# Altium footprint library PCB - CONNECTOR - MOLEX - MOLEX 0530470810.PcbLib: 1 footprints
Each footprint in its own frame and in the unit in brackets; x right, y up, seen from the top. Pads: shape width x height; smd on the part's side, far side on the other; paste and mask are expansions set on the pad; w line width, h text height; cw(c..) or ccw(c..) is an arc to the next point about the centre after c.
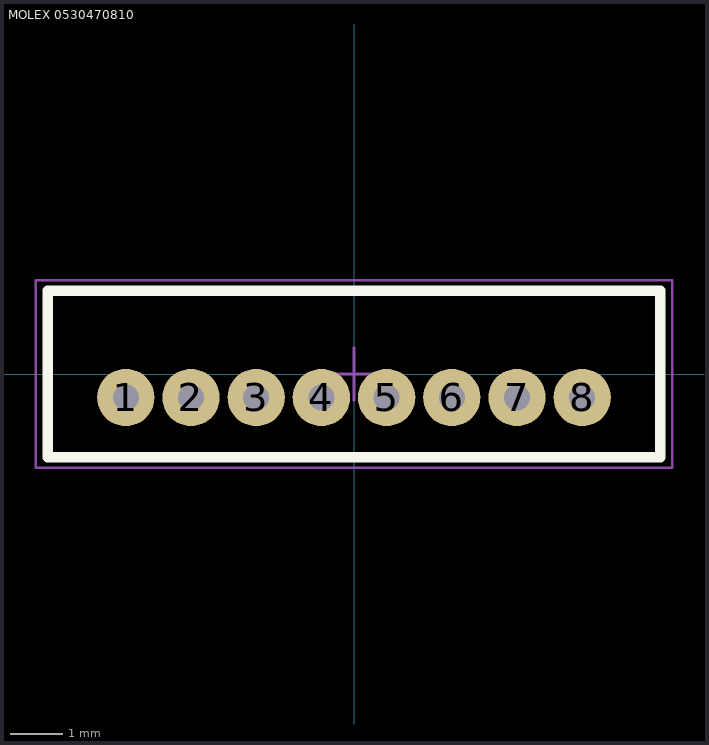
[diagram p0: the footprint, top view; thin cyan lines are the x and y axes]

## MOLEX 0530470810 [mm] "Connector Header Through Hole 8 position, 1.25mm Pitch, 11.75x3.2 mm Body"
height 4.2
pads (8):
  round 1.1 hole 0.5: 1(-4.375,-0.45) 2(-3.125,-0.45) 3(-1.875,-0.45) 4(-0.625,-0.45) 5(0.625,-0.45) 6(1.875,-0.45) 7(3.125,-0.45) 8(4.375,-0.45)
Top Overlay:
  lines w0.2: -5.875,-1.6 -5.875,1.6 5.875,1.6 5.875,-1.6 -5.875,-1.6
Mechanical 13:
  lines w0.1: -5.875,-1.6 -5.875,1.6 5.875,1.6 5.875,-1.6 -5.875,-1.6
Mechanical 15 (Mech15):
  lines w0.05: -0.5,0 0,0 ; 0,-0.5 0,0 ; 0,0.5 0,0 ; 0.5,0 0,0 ; -6.1,-1.8 -6.1,1.8 6.1,1.8 6.1,-1.8 -6.1,-1.8
3D body: height 4.2, standoff -2.3, extent -5.875,-1.6 5.875,1.6